# EAGLE library part A6213 (library allegro-a6213)
The A6213 is a single IC switching regulator that provides constant-current output to drive high-power LEDs. It integrates a high-side N-channel DMOS switch for DC-to-DC step- down (buck) conversion. A true average current is output using a cycle-by-cycle, controlled on-time method. The library has been designed by Richard Magdycz <https://www.facebook.com/groups/eaglecadsoftUK>
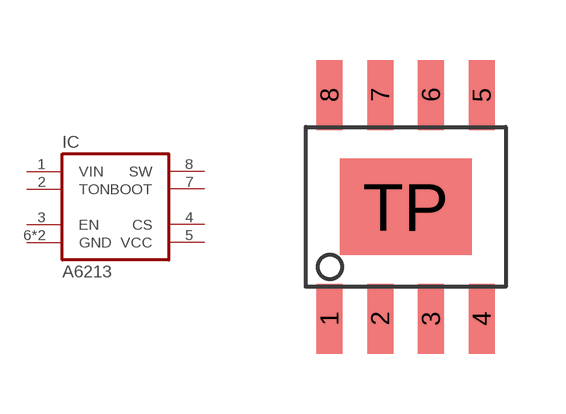
[diagram p0: symbol with the pads of SOIC08; footprint SOIC08]

Designator prefix IC

## A6213  [SOIC08]
1  VIN  in
2  TON  in
3  EN  in
4  CS  out
5  VCC  pwr
6  GND  pwr
7  BOOT  in
8  SW  out
TP  GND  pwr

## Footprint SOIC08 (pad centres in mm)
Package LJ, 8-Pin Narrow SOIC with Exposed Thermal Pad
smd 0.65 x 1.75: 1 -1.905,-2.8; 2 -0.635,-2.8; 3 0.635,-2.8; 4 1.905,-2.8; 5 1.905,2.8; 6 0.635,2.8; 7 -0.635,2.8; 8 -1.905,2.8
smd 3.3 x 2.41: TP 0,0